# Altium footprint library Modules.PcbLib: 1 footprints
Each footprint in its own frame and in the unit in brackets; x right, y up, seen from the top. Pads: shape width x height; smd on the part's side, far side on the other; paste and mask are expansions set on the pad; w line width, h text height; cw(c..) or ccw(c..) is an arc to the next point about the centre after c.
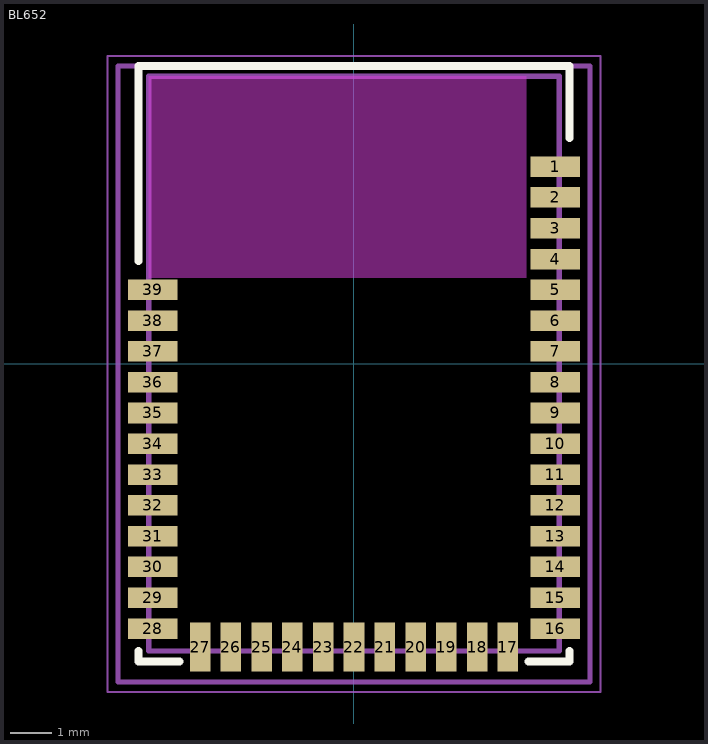
[diagram p0: the footprint, top view; thin cyan lines are the x and y axes]

## BL652 [mm]
pads (39):
  rect 1.2x0.5 smd: 1(4.9,4.8) 2(4.9,4.05) 3(4.9,3.3) 4(4.9,2.55) 5(4.9,1.8) 6(4.9,1.05) 7(4.9,0.3) 8(4.9,-0.45) 9(4.9,-1.2) 10(4.9,-1.95) 11(4.9,-2.7) 12(4.9,-3.45) 13(4.9,-4.2) 14(4.9,-4.95) 15(4.9,-5.7) 16(4.9,-6.45) 28(-4.9,-6.45) 29(-4.9,-5.7) 30(-4.9,-4.95) 31(-4.9,-4.2) 32(-4.9,-3.45) 33(-4.9,-2.7) 34(-4.9,-1.95) 35(-4.9,-1.2) 36(-4.9,-0.45) 37(-4.9,0.3) 38(-4.9,1.05) 39(-4.9,1.8)
  rect 0.5x1.2 smd: 17(3.75,-6.9) 18(3,-6.9) 19(2.25,-6.9) 20(1.5,-6.9) 21(0.75,-6.9) 22(0,-6.9) 23(-0.75,-6.9) 24(-1.5,-6.9) 25(-2.25,-6.9) 26(-3,-6.9) 27(-3.75,-6.9)
Top Layer keep-out:
  region: -5,2.1 -5,7 4.2,7 4.2,2.1
Top Overlay:
  lines w0.2: -5.25,-7 -5.25,-7.25 -4.25,-7.25 ; -5.25,2.5 -5.25,7.25 5.25,7.25 5.25,5.5 ; 4.25,-7.25 5.25,-7.25 5.25,-7
Mechanical 13:
  lines w0.127: -5,-7 -5,7 5,7 5,-7 -5,-7
Mechanical 15:
  lines w0.05: -6,-8 -6,7.5 -5.5,7.5 6,7.5 6,-8 -6,-8
Mechanical 22:
  lines w0.127: -5,-7 -4.25,-7 ; -5,2.25 -5,7 5,7 5,5.5 ; 4.25,-7 5,-7 5,-6.75
Mechanical 30:
  lines w0.127: -5.75,-7.75 -5.75,7.25 5.75,7.25 5.75,-7.75 -5.75,-7.75